# Altium footprint library BMS_Components.PcbLib: 16 footprints
Each footprint in its own frame and in the unit in brackets; x right, y up, seen from the top. Pads: shape width x height; smd on the part's side, far side on the other; paste and mask are expansions set on the pad; w line width, h text height; cw(c..) or ccw(c..) is an arc to the next point about the centre after c.
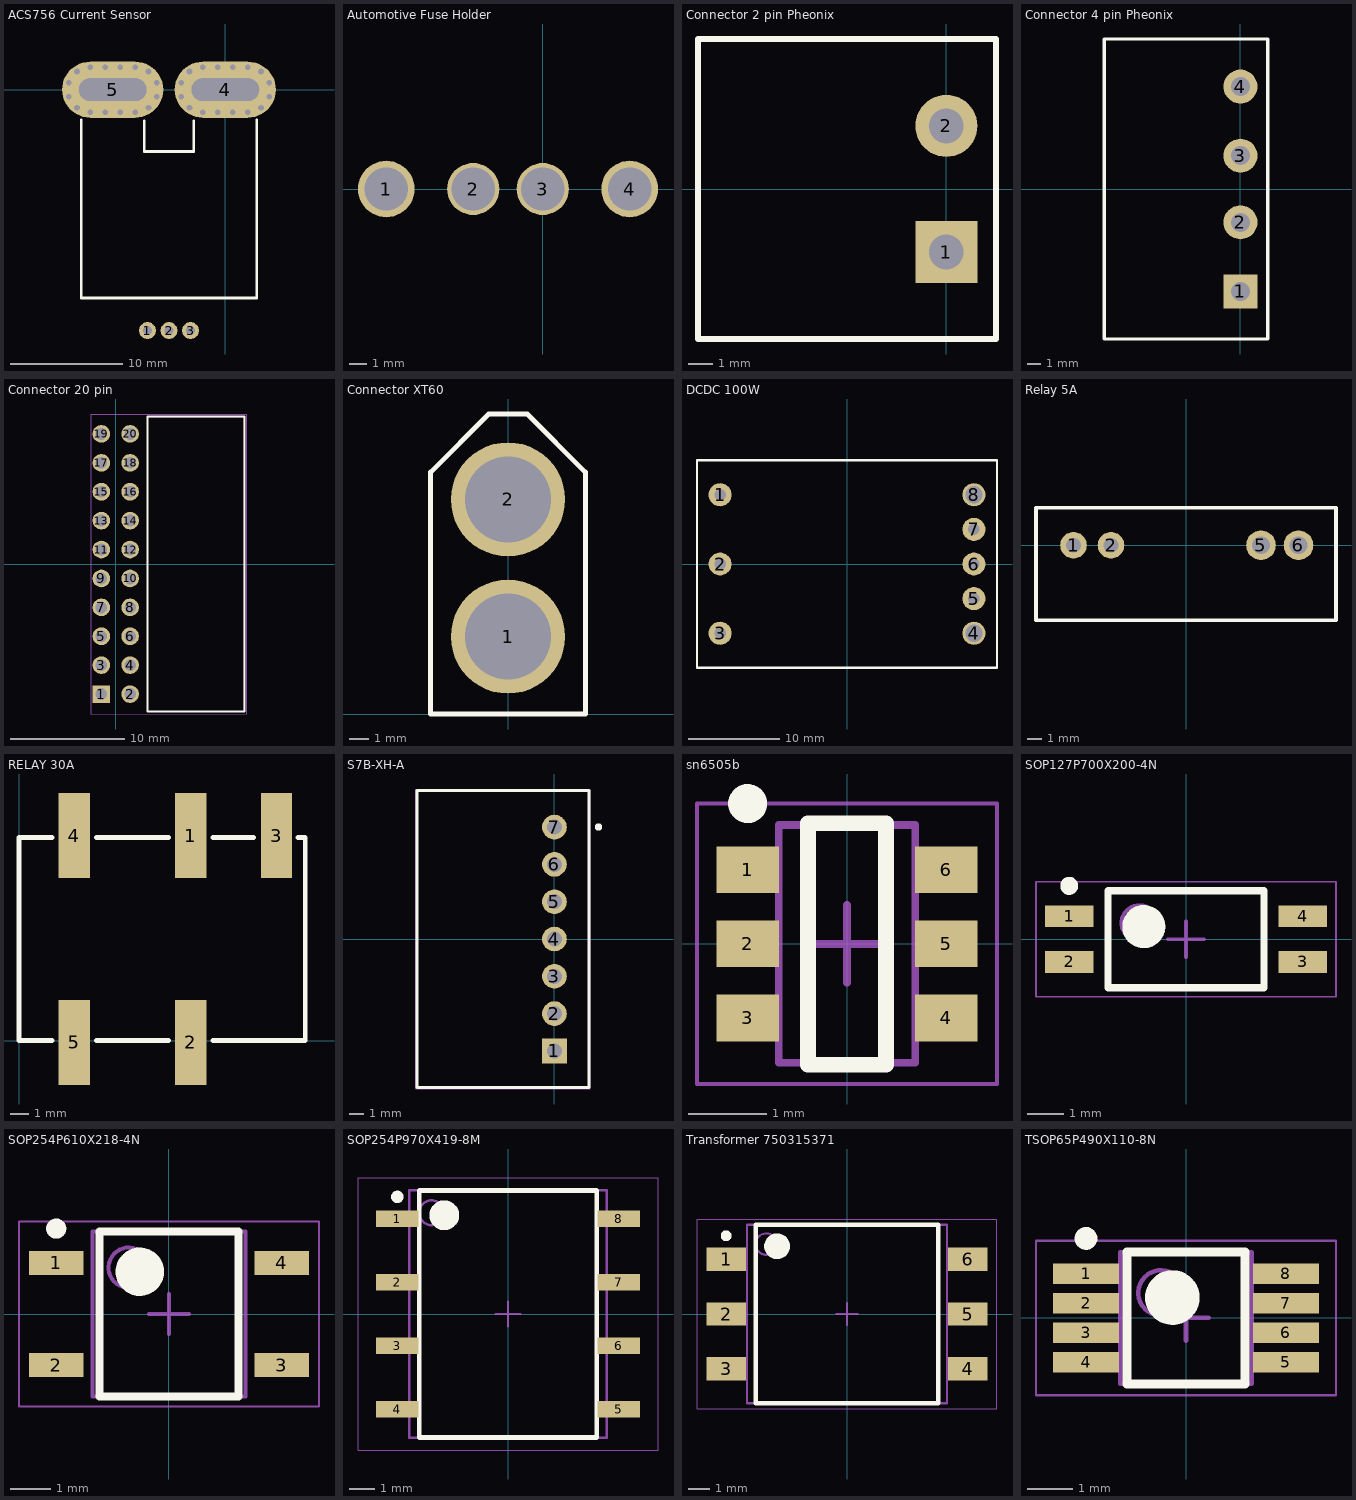
[diagram p0: the footprints below, top view; thin cyan lines are the x and y axes]

## ACS756 Current Sensor [mm] "50A Current Sensor"
pads (5):
  round 1.5 hole 0.8: 1(-6.91,-21.4) 2(-5,-21.4) 3(-3.09,-21.4)
  oval 9x5 hole 2 slot 6 at 0 deg: 4(0,0) 5(-10,0)
via -2,-2 diameter 0.9 hole 0.5
via 2,-2 diameter 0.9 hole 0.5
via -0.667,-2 diameter 0.9 hole 0.5
via 0.667,-2 diameter 0.9 hole 0.5
via -3.176,1.618 diameter 0.9 hole 0.5
via -3.902,0.618 diameter 0.9 hole 0.5
via -3.902,-0.618 diameter 0.9 hole 0.5
via -3.176,-1.618 diameter 0.9 hole 0.5
via 3.176,1.618 diameter 0.9 hole 0.5
via 3.902,0.618 diameter 0.9 hole 0.5
via 3.902,-0.618 diameter 0.9 hole 0.5
via 3.176,-1.618 diameter 0.9 hole 0.5
via -0.667,2 diameter 0.9 hole 0.5
via 0.667,2 diameter 0.9 hole 0.5
via -2,2 diameter 0.9 hole 0.5
via 2,2 diameter 0.9 hole 0.5
via -8,2 diameter 0.9 hole 0.5
via -12,2 diameter 0.9 hole 0.5
via -9.333,2 diameter 0.9 hole 0.5
via -10.667,2 diameter 0.9 hole 0.5
via -6.824,-1.618 diameter 0.9 hole 0.5
via -6.098,-0.618 diameter 0.9 hole 0.5
via -6.098,0.618 diameter 0.9 hole 0.5
via -6.824,1.618 diameter 0.9 hole 0.5
via -13.176,-1.618 diameter 0.9 hole 0.5
via -13.902,-0.618 diameter 0.9 hole 0.5
via -13.902,0.618 diameter 0.9 hole 0.5
via -13.176,1.618 diameter 0.9 hole 0.5
via -9.333,-2 diameter 0.9 hole 0.5
via -10.667,-2 diameter 0.9 hole 0.5
via -8,-2 diameter 0.9 hole 0.5
via -12,-2 diameter 0.9 hole 0.5
Top Overlay:
  lines w0.254: -12.8,-2.7 -12.8,-18.5 2.8,-18.5 2.8,-2.7 ; -7.2,-2.8 -7.2,-5.5 -2.8,-5.5 -2.8,-2.8
3D body: height 4, standoff -2, extent -12.75,-0.5 -7.25,0.5
3D body: height 4, standoff 3, extent -2.75,-14.1 2.75,-0.5
3D body: height 4, standoff -2, extent -2.75,-0.5 2.75,0.5
3D body: height 4, standoff 3, extent -12.75,-14.1 -7.25,-0.5
3D body: height 7, standoff 0, extent -10,-18.5 0,-5.5

## Automotive Fuse Holder [mil] "Automotive Fuse Holder"
pads (4):
  round 130 hole 100: 1(-360,0) 4(200,0)
  round 120 hole 100: 2(-160,0) 3(0,0)
3D body: height 216.54, standoff 0, extent -360,-30 -160,30
3D body: height 748.03, standoff 216.54, extent -360,-55 200,55
3D body: height 216.54, standoff 0, extent 0,-30 200,30

## Connector 2 pin Pheonix [mm] "2 pin green pheonix connector"
pads (2):
  rect 2.5x2.5 hole 1.4: 1(0,-2.54)
  round 2.5 hole 1.4: 2(0,2.54)
Top Overlay:
  lines w0.254: -10,-6.04 -10,6.04 2,6.04 2,-6.04 -10,-6.04
3D body: height 8.6, standoff 0.5, extent -10,-6.04 2,6.04

## Connector 4 pin Pheonix [mm] "4 pin green pheonix connector"
pads (4):
  rect 2.5x2.5 hole 1.4: 1(0,-7.53)
  round 2.5 hole 1.4: 2(0,-2.45) 3(0,2.45) 4(0,7.53)
Top Overlay:
  lines w0.254: -10,-11.03 -10,11.03 2,11.03 2,-11.03 -10,-11.03
3D body: height 8.6, standoff 0.5, extent -10,-11.03 2,11.03

## Connector 20 pin [mm] "Horizontal 20 pin connector for UM"
pads (20):
  rect 1.55x1.55 hole 1.04: 1(-1.27,-11.43)
  round 1.55 hole 1.04: 2(1.27,-11.43) 3(-1.27,-8.89) 4(1.27,-8.89) 5(-1.27,-6.35) 6(1.27,-6.35) 7(-1.27,-3.81) 8(1.27,-3.81) 9(-1.27,-1.27) 10(1.27,-1.27) 11(-1.27,1.27) 12(1.27,1.27) 13(-1.27,3.81) 14(1.27,3.81) 15(-1.27,6.35) 16(1.27,6.35) 17(-1.27,8.89) 18(1.27,8.89) 19(-1.27,11.43) 20(1.27,11.43)
Top Overlay:
  lines w0.2: 2.794,-12.955 11.305,-12.955 11.304,12.955 2.794,12.955 2.794,-12.955
Mechanical 13:
  lines w0.1: 2.794,-12.955 2.794,12.955 11.304,12.955 11.304,-12.955 2.794,-12.955
Mechanical 15:
  lines w0.05: -2.17,-13.18 -2.17,13.18 11.529,13.18 11.529,-13.18 -2.17,-13.18
3D body "SSW-105-02-X-D-RA.step": height 4.95, standoff -2.54, extent -1.473,-0.254 11.303,12.954
3D body "SSW-105-02-X-D-RA.step": height 4.95, standoff -2.54, extent -1.473,-12.954 11.303,0.254

## Connector XT60 [mm] "XT60 Battery Connector"
pads (2):
  round 6 hole 4.5: 1(0,4.064) 2(0,11.264)
Top Overlay:
  lines w0.254: -4.064,0 -4.064,12.7 -1.016,15.748 1.016,15.748 4.064,12.7 4.064,0 -4.064,0
3D body: height 15.88, standoff 0, extent -4.064,0 4.064,15.748

## DCDC 100W [mm] "DCDC 100W, 12V"
pads (8):
  round 2.54 hole 1.27: 1(-13.97,7.62) 2(-13.97,0) 3(-13.97,-7.62) 5(13.97,-3.81) 6(13.97,0) 7(13.97,3.81)
  round 2.54 hole 1.905: 4(13.97,-7.62) 8(13.97,7.62)
Top Overlay:
  lines w0.254: -16.51,-11.43 -16.51,11.43 16.51,11.43 16.51,-11.43 -16.51,-11.43
3D body: height 10.16, standoff 3.45, extent -16.51,-11.43 16.51,11.43

## Relay 5A [mm] "5A, Slim, 1 Form A, 12V Coil voltage"
pads (4):
  round 1.8 hole 1: 1(-7.62,0) 2(-5.08,0)
  round 2 hole 1.2: 5(5.08,0) 6(7.62,0)
Top Overlay:
  lines w0.254: -10.16,-5.08 10.16,-5.08 10.16,2.54 -10.16,2.54 -10.16,-5.08
3D body: height 12.5, standoff 0, extent -10.16,-5.08 10.16,2.54

## RELAY 30A [mm] "30A, Tiny, 1 Form A, 12V Coil voltage"
pads (5):
  rect 1.7x4.6 smd: 1(9.3,11.1) 2(9.3,-0.1) 3(13.95,11.1) 4(3,11.1) 5(3,-0.1)
Top Overlay:
  lines w0.254: 1.8,0 0,0 0,11 1.8,11 ; 4.2,0 8.1,0 ; 4.2,11 8.1,11 ; 10.5,0 15.5,0 15.5,11 15.1,11 ; 10.5,11 12.7,11
3D body: height 15.1, standoff 0.5, extent 0,0 15.5,11

## S7B-XH-A [mm] "7 pin battery balancing connector"
pads (7):
  rect 1.65x1.65 hole 1: 1(0,-7.5)
  round 1.65 hole 1: 2(0,-5) 3(0,-2.5) 4(0,0) 5(0,2.5) 6(0,5) 7(0,7.5)
Top Overlay:
  circle w0.25: c2.95,7.503 r0.125
  lines w0.2: -9.2,-9.95 -9.2,9.95 2.3,9.95 2.3,-9.95 -9.2,-9.95
Mechanical 13:
  lines w0.1: -9.2,-9.95 -9.2,9.95 2.3,9.95 2.3,-9.95 -9.2,-9.95
Mechanical 15:
  lines w0.05: -9.3,-10.05 -9.3,10.05 2.4,10.05 2.4,-10.05 -9.3,-10.05
  lines w0.1: -0.5,0 0.5,0 ; 0,-0.5 0,0.5
3D body "S4B-XH-A.STEP": height 6.15, standoff -3.4, extent -9.2,-9.95 2.3,2.45
3D body "S3B-XH-A.STEP": height 6.15, standoff -3.4, extent -9.2,0.049 2.3,9.949

## sn6505b [mm] "SOT23, 6-Leads, Body 2,90x2,45mm, Pitch 0,95mm, IPC Medium Density"
height 1.45
pads (6):
  rect 0.8x0.6 smd: 1(-1.275,0.95) 2(-1.275,0) 3(-1.275,-0.95) 4(1.275,-0.95) 5(1.275,0) 6(1.275,0.95)
Top Overlay:
  circle w0.25: c-1.275,1.8 r0.125
  lines w0.2: -0.5,-1.55 -0.5,1.55 0.5,1.55 0.5,-1.55 -0.5,-1.55
Mechanical 13:
  lines w0.1: -0.875,-1.525 0.875,-1.525 0.875,1.525 -0.875,1.525 -0.875,-1.525
Mechanical 15:
  lines w0.05: -1.925,-1.8 1.925,-1.8 1.925,1.8 -1.925,1.8 -1.925,-1.8
  lines w0.1: -0.5,0 0.5,0 ; 0,-0.5 0,0.5
3D body: height 1.45, standoff 0.01, extent -0.875,-1.525 0.875,1.525

## SOP127P700X200-4N [mm] "SOP, 4-Leads, Body 2.70x4.40mm, Pitch 1.27mm, IPC Medium Density"
height 2
pads (4):
  rect 1.35x0.6 smd: 1(-3.25,0.635) 2(-3.25,-0.635) 3(3.25,-0.635) 4(3.25,0.635)
Top Overlay:
  circle w0.25: c-3.25,1.485 r0.125
  circle w0.6: c-1.175,0.35 r0.3
  lines w0.2: -2.175,-1.35 -2.175,1.35 2.175,1.35 2.175,-1.35 -2.175,-1.35
Mechanical 13:
  circle w0.1: c-1.3,0.45 r0.5
  lines w0.1: -2.2,-1.35 -2.2,1.35 2.2,1.35 2.2,-1.35 -2.2,-1.35
Mechanical 15:
  lines w0.05: -4.175,-1.6 -4.175,1.6 4.175,1.6 4.175,-1.6 -4.175,-1.6
  lines w0.1: -0.5,0 0.5,0 ; 0,-0.5 0,0.5
3D body "SOP127P700X200-4N.step": height 2, standoff 0, extent -3.5,-1.35 3.5,1.35

## SOP254P610X218-4N [mm] "SOP, 4-Leads, Body 4.09x3.81mm, Pitch 2.54mm, IPC Medium Density"
height 2.19
pads (4):
  rect 1.35x0.6 smd: 1(-2.8,1.27) 2(-2.8,-1.27) 3(2.8,-1.27) 4(2.8,1.27)
Top Overlay:
  circle w0.25: c-2.8,2.12 r0.125
  circle w0.6: c-0.725,1.05 r0.3
  lines w0.2: -1.725,-2.05 -1.725,2.05 1.725,2.05 1.725,-2.05 -1.725,-2.05
Mechanical 13:
  circle w0.1: c-1,1.15 r0.5
  lines w0.1: -1.9,-2.05 -1.9,2.05 1.9,2.05 1.9,-2.05 -1.9,-2.05
Mechanical 15:
  lines w0.05: -3.725,-2.3 -3.725,2.3 3.725,2.3 3.725,-2.3 -3.725,-2.3
  lines w0.1: -0.5,0 0.5,0 ; 0,-0.5 0,0.5
3D body "SOP254P610X218-4N.step": height 2.18, standoff 0, extent -3.048,-2.05 3.048,2.05

## SOP254P970X419-8M [mm] "SOP, 8-Leads, Body 9.65x7.62mm, Pitch 2.54mm, IPC Low Density"
height 4.19
pads (8):
  rect 1.7x0.65 smd: 1(-4.425,3.81) 2(-4.425,1.27) 3(-4.425,-1.27) 4(-4.425,-3.81) 5(4.425,-3.81) 6(4.425,-1.27) 7(4.425,1.27) 8(4.425,3.81)
Top Overlay:
  circle w0.25: c-4.425,4.685 r0.125
  circle w0.6: c-2.55,3.95 r0.3
  lines w0.2: -3.55,-4.95 -3.55,4.95 3.55,4.95 3.55,-4.95 -3.55,-4.95
Mechanical 13:
  circle w0.1: c-3.05,4.05 r0.5
  lines w0.1: -3.95,-4.95 -3.95,4.95 3.95,4.95 3.95,-4.95 -3.95,-4.95
Mechanical 15:
  lines w0.05: -6,-5.45 -6,5.45 6,5.45 6,-5.45 -6,-5.45
  lines w0.1: -0.5,0 0.5,0 ; 0,-0.5 0,0.5
3D body "SOP254P970X419-8M.step": height 4.19, standoff 0, extent -4.825,-4.95 4.825,4.95

## Transformer 750315371 [mm] "SOP, 6-Leads, Body 8,30x9,25mm, Pitch 2,54mm, IPC Medium Density"
height 4.1
pads (6):
  rect 1.83x1.09 smd: 1(-5.62,2.54) 2(-5.62,0) 3(-5.62,-2.54) 4(5.62,-2.54) 5(5.62,0) 6(5.62,2.54)
Top Overlay:
  circle w0.6: c-3.25,3.15 r0.3
  circle w0.25: c-5.62,3.635 r0.125
  lines w0.2: -4.25,-4.15 4.25,-4.15 4.25,4.15 -4.25,4.15 -4.25,-4.15
Mechanical 13:
  circle w0.1: c-3.75,3.25 r0.5
  lines w0.1: -4.65,-4.15 4.65,-4.15 4.65,4.15 -4.65,4.15 -4.65,-4.15
Mechanical 15:
  lines w0.05: -6.975,-4.4 6.975,-4.4 6.975,4.4 -6.975,4.4 -6.975,-4.4
  lines w0.1: -0.5,0 0.5,0 ; 0,-0.5 0,0.5
3D body: height 4.1, standoff 0.1, extent -4.65,-4.15 4.65,4.15

## TSOP65P490X110-8N [mm] "TSOP, 8-Leads, Body 3.00x3.00mm, Pitch 0.65mm, IPC Medium Density"
height 1.1
pads (8):
  rect 1.45x0.45 smd: 1(-2.2,0.975) 2(-2.2,0.325) 3(-2.2,-0.325) 4(-2.2,-0.975) 5(2.2,-0.975) 6(2.2,-0.325) 7(2.2,0.325) 8(2.2,0.975)
Top Overlay:
  circle w0.25: c-2.2,1.75 r0.125
  circle w0.6: c-0.3,0.45 r0.3
  lines w0.2: -1.3,-1.45 -1.3,1.45 1.3,1.45 1.3,-1.45 -1.3,-1.45
Mechanical 13:
  circle w0.1: c-0.55,0.55 r0.5
  lines w0.1: -1.45,-1.45 -1.45,1.45 1.45,1.45 1.45,-1.45 -1.45,-1.45
Mechanical 15:
  lines w0.05: -3.3,-1.7 -3.3,1.7 3.3,1.7 3.3,-1.7 -3.3,-1.7
  lines w0.1: -0.5,0 0.5,0 ; 0,-0.5 0,0.5
3D body "TSOP65P490X110-8N.step": height 1.1, standoff 0, extent -2.45,-1.45 2.45,1.45